# EAGLE library part 648110131822 (library Wuerth_Elektronik_eiCan_Wire_to_Board_Connectors v1.2)
WR-WTB 1.50mm SMT Male Horizontal Shrouded Header, 10 Pins
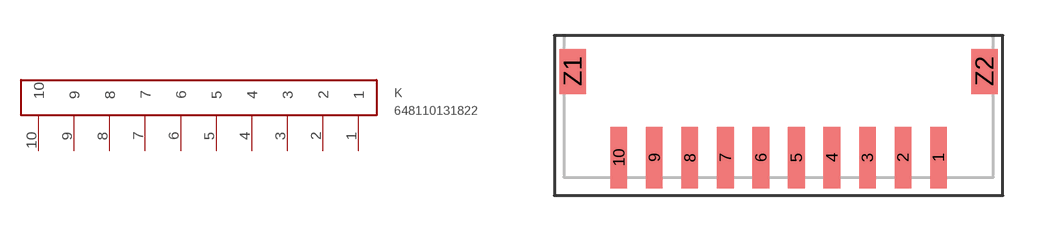
[diagram p52: symbol with the pads of 648110131822; footprint 648110131822]

Designator prefix K

## 648110131822  [648110131822]
1  1
2  2
3  3
4  4
5  5
6  6
7  7
8  8
9  9
10  10

## Footprint 648110131822 (pad centres in mm)
WR-WTB 1.50mm SMT Male Horizontal Shrouded Header, 10 Pins
smd 0.7 x 2.6: 1 12.75,0; 2 11.25,0; 3 9.75,0; 4 8.25,0; 5 6.75,0; 6 5.25,0; 7 3.75,0; 8 2.25,0; 9 0.75,0; 10 -0.75,0
smd 1.1 x 1.9: Z1 -2.7,3.65; Z2 14.7,3.65